# EAGLE library part DUAL_NP_MOSFET (library timelapse-prototype-parts)
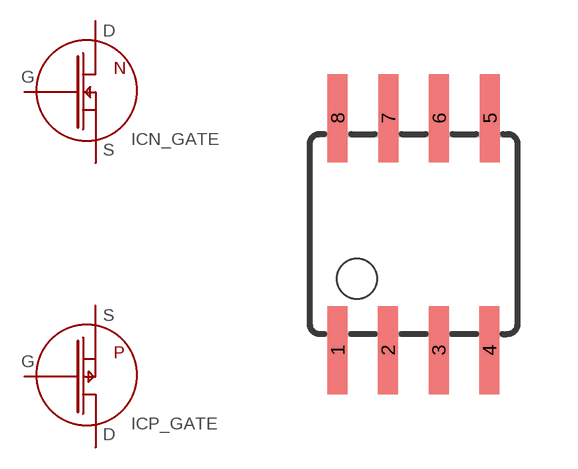
[diagram p1: symbol with the pads of SOP08; footprint SOP08]

Designator prefix IC; gates N_GATE=N_MOSFET P_GATE=P_MOSFET

## DUAL_NP_MOSFETFDS8928A  [SOP08]
1  N_GATE:S
2  N_GATE:G
3  P_GATE:S
4  P_GATE:G
5  P_GATE:D
7  N_GATE:D

## Footprint SOP08 (pad centres in mm)
Small Outline Package
smd 0.5 x 2.2: 1 -1.905,-2.9; 2 -0.645,-2.9; 3 0.625,-2.9; 4 1.895,-2.9; 5 1.905,2.9; 6 0.635,2.9; 7 -0.635,2.9; 8 -1.905,2.9